# EAGLE library part ADSP-BF533SBSTZ400 (library DSPs)
IC DSP CTLR 16BIT 400MHZ 176LQFP Manufacturer's datasheet <https://www.analog.com/media/en/technical-documentation/data-sheets/ADSP-BF531_BF532_BF533.pdf>
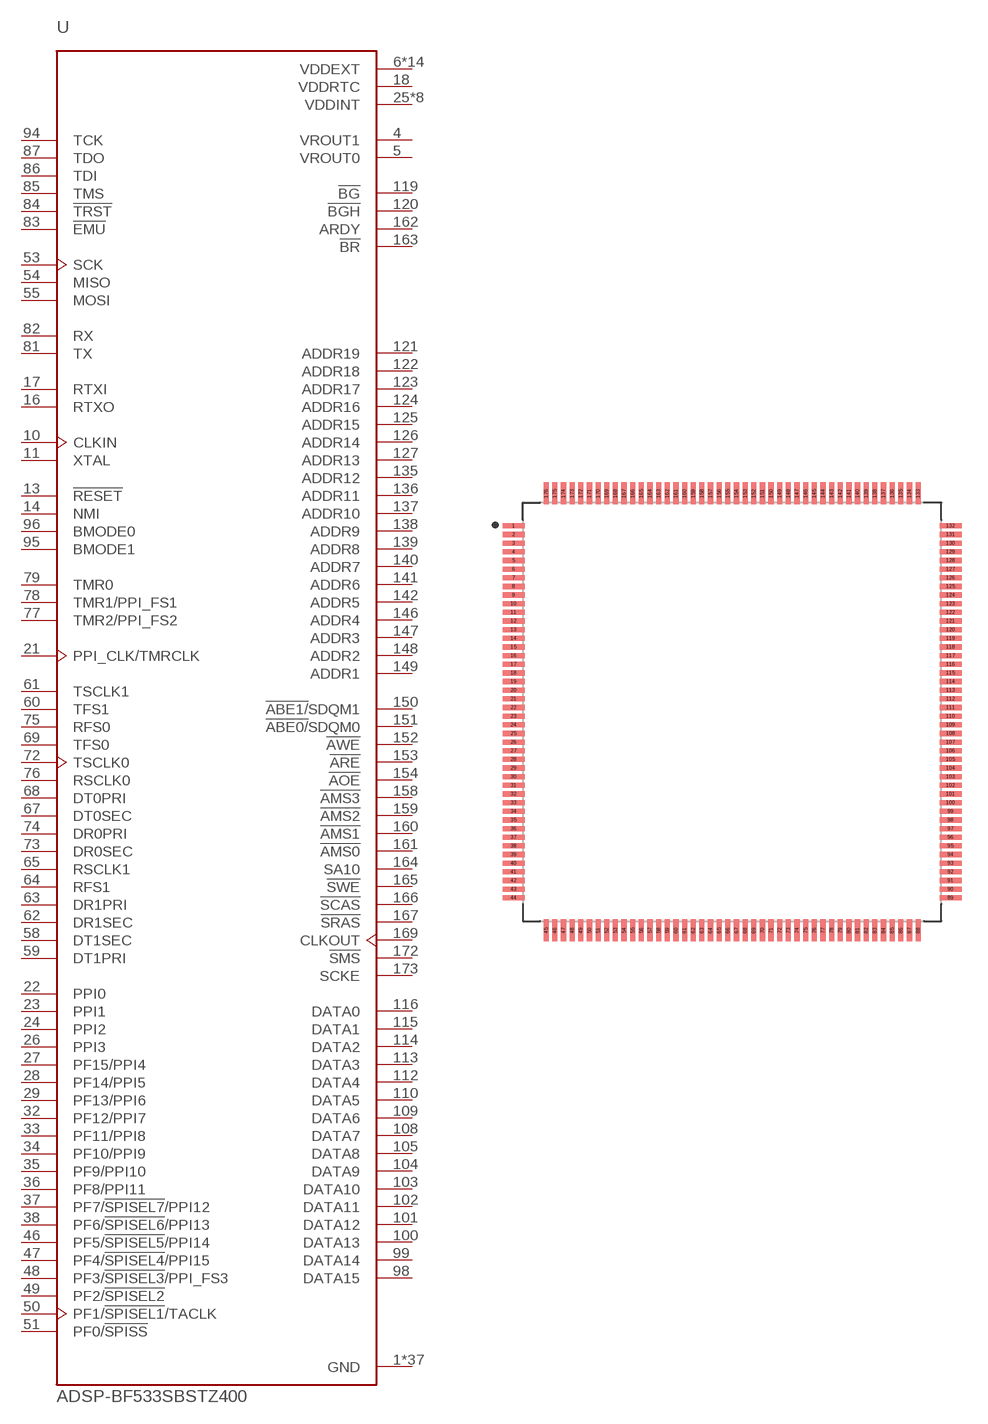
[diagram p4: symbol with the pads of LQFP-176; footprint LQFP-176]

Designator prefix U

## ADSP-BF533SBSTZ400 (CREATED_BY: PCBLayout.com; DIGIKEY_PN: ADSP-BF533SBSTZ400-ND; MANUFACTURER: Analog Devices Inc.; MPN: ADSP-BF533SBSTZ400; PACKAGE: LQFP-176)  [LQFP-176]
1  GND  pwr
2  GND  pwr
3  GND  pwr
4  VROUT1  out
5  VROUT0  out
6  VDDEXT  pwr
7  GND  pwr
8  GND  pwr
9  GND  pwr
10  CLKIN  in
11  XTAL  out
12  VDDEXT  pwr
13  !RESET  in
14  NMI  in
15  GND  pwr
16  RTXO  out
17  RTXI  in
18  VDDRTC  pwr
19  GND  pwr
20  VDDEXT  pwr
21  PPI_CLK/TMRCLK  in
22  PPI0
23  PPI1
24  PPI2
25  VDDINT  pwr
26  PPI3
27  PF15/PPI4
28  PF14/PPI5
29  PF13/PPI6
30  GND  pwr
31  VDDEXT  pwr
32  PF12/PPI7
33  PF11/PPI8
34  PF10/PPI9
35  PF9/PPI10
36  PF8/PPI11
37  PF7/!SPISEL7!/PPI12
38  PF6/!SPISEL6!/PPI13
39  GND  pwr
40  GND  pwr
41  GND  pwr
42  GND  pwr
43  GND  pwr
44  GND  pwr
45  VDDEXT  pwr
46  PF5/!SPISEL5!/PPI14
47  PF4/!SPISEL4!/PPI15
48  PF3/!SPISEL3!/PPI_FS3
49  PF2/!SPISEL2!
50  PF1/!SPISEL1!/TACLK
51  PF0/!SPISS
52  VDDINT  pwr
53  SCK
54  MISO
55  MOSI
56  GND  pwr
57  VDDEXT  pwr
58  DT1SEC  out
59  DT1PRI  out
60  TFS1
61  TSCLK1
62  DR1SEC  in
63  DR1PRI  in
64  RFS1
65  RSCLK1
66  VDDINT  pwr
67  DT0SEC  out
68  DT0PRI  out
69  TFS0
70  GND  pwr
71  VDDEXT  pwr
72  TSCLK0
73  DR0SEC  in
74  DR0PRI  in
75  RFS0
76  RSCLK0
77  TMR2/PPI_FS2
78  TMR1/PPI_FS1
79  TMR0
80  VDDINT  pwr
81  TX  out
82  RX  in
83  !EMU  out
84  !TRST  in
85  TMS  in
86  TDI  in
87  TDO  out
88  GND  pwr
89  GND  pwr
90  GND  pwr
91  GND  pwr
92  GND  pwr
93  VDDEXT  pwr
94  TCK  in
95  BMODE1  in
96  BMODE0  in
97  GND  pwr
98  DATA15
99  DATA14
100  DATA13
101  DATA12
102  DATA11
103  DATA10
104  DATA9
105  DATA8
106  GND  pwr
107  VDDEXT  pwr
108  DATA7
109  DATA6
110  DATA5
111  VDDINT  pwr
112  DATA4
113  DATA3
114  DATA2
115  DATA1
116  DATA0
117  GND  pwr
118  VDDEXT  pwr
119  !BG  out
120  !BGH  out
121  ADDR19  out
122  ADDR18  out
123  ADDR17  out
124  ADDR16  out
125  ADDR15  out
126  ADDR14  out
127  ADDR13  out
128  GND  pwr
129  GND  pwr
130  GND  pwr
131  GND  pwr
132  GND  pwr
133  GND  pwr
134  VDDEXT  pwr
135  ADDR12  out
136  ADDR11  out
137  ADDR10  out
138  ADDR9  out
139  ADDR8  out
140  ADDR7  out
141  ADDR6  out
142  ADDR5  out
143  VDDINT  pwr
144  GND  pwr
145  VDDEXT  pwr
146  ADDR4  out
147  ADDR3  out
148  ADDR2  out
149  ADDR1  out
150  !ABE1/!SDQM1  out
151  !ABE0/!SDQM0  out
152  !AWE  out
153  !ARE  out
154  !AOE  out
155  GND  pwr
156  VDDEXT  pwr
157  VDDINT  pwr
158  !AMS3  out
159  !AMS2  out
160  !AMS1  out
161  !AMS0  out
162  ARDY  in
163  !BR  in
164  SA10  out
165  !SWE  out
166  !SCAS  out
167  !SRAS  out
168  VDDINT  pwr
169  CLKOUT  out
170  GND  pwr
171  VDDEXT  pwr
172  !SMS  out
173  SCKE  out
174  GND  pwr
175  GND  pwr
176  GND  pwr

## Footprint LQFP-176 (pad centres in mm)
smd 1.26 x 0.3: 1 -12.63,10.75; 2 -12.63,10.25; 3 -12.63,9.75; 4 -12.63,9.25; 5 -12.63,8.75; 6 -12.63,8.25; 7 -12.63,7.75; 8 -12.63,7.25; 9 -12.63,6.75; 10 -12.63,6.25; 11 -12.63,5.75; 12 -12.63,5.25; 13 -12.63,4.75; 14 -12.63,4.25; 15 -12.63,3.75; 16 -12.63,3.25; 17 -12.63,2.75; 18 -12.63,2.25; 19 -12.63,1.75; 20 -12.63,1.25; 21 -12.63,0.75; 22 -12.63,0.25; 23 -12.63,-0.25; 24 -12.63,-0.75; 25 -12.63,-1.25; 26 -12.63,-1.75; 27 -12.63,-2.25; 28 -12.63,-2.75; 29 -12.63,-3.25; 30 -12.63,-3.75; 31 -12.63,-4.25; 32 -12.63,-4.75; 33 -12.63,-5.25; 34 -12.63,-5.75; 35 -12.63,-6.25; 36 -12.63,-6.75; 37 -12.63,-7.25; 38 -12.63,-7.75; 39 -12.63,-8.25; 40 -12.63,-8.75; 41 -12.63,-9.25; 42 -12.63,-9.75; 43 -12.63,-10.25; 44 -12.63,-10.75; 89 12.63,-10.75; 90 12.63,-10.25; 91 12.63,-9.75; 92 12.63,-9.25; 93 12.63,-8.75; 94 12.63,-8.25; 95 12.63,-7.75; 96 12.63,-7.25; 97 12.63,-6.75; 98 12.63,-6.25; 99 12.63,-5.75; 100 12.63,-5.25; 101 12.63,-4.75; 102 12.63,-4.25; 103 12.63,-3.75; 104 12.63,-3.25; 105 12.63,-2.75; 106 12.63,-2.25; 107 12.63,-1.75; 108 12.63,-1.25; 109 12.63,-0.75; 110 12.63,-0.25; 111 12.63,0.25; 112 12.63,0.75; 113 12.63,1.25; 114 12.63,1.75; 115 12.63,2.25; 116 12.63,2.75; 117 12.63,3.25; 118 12.63,3.75; 119 12.63,4.25; 120 12.63,4.75; 121 12.63,5.25; 122 12.63,5.75; 123 12.63,6.25; 124 12.63,6.75; 125 12.63,7.25; 126 12.63,7.75; 127 12.63,8.25; 128 12.63,8.75; 129 12.63,9.25; 130 12.63,9.75; 131 12.63,10.25; 132 12.63,10.75
smd 0.3 x 1.26: 45 -10.75,-12.63; 46 -10.25,-12.63; 47 -9.75,-12.63; 48 -9.25,-12.63; 49 -8.75,-12.63; 50 -8.25,-12.63; 51 -7.75,-12.63; 52 -7.25,-12.63; 53 -6.75,-12.63; 54 -6.25,-12.63; 55 -5.75,-12.63; 56 -5.25,-12.63; 57 -4.75,-12.63; 58 -4.25,-12.63; 59 -3.75,-12.63; 60 -3.25,-12.63; 61 -2.75,-12.63; 62 -2.25,-12.63; 63 -1.75,-12.63; 64 -1.25,-12.63; 65 -0.75,-12.63; 66 -0.25,-12.63; 67 0.25,-12.63; 68 0.75,-12.63; 69 1.25,-12.63; 70 1.75,-12.63; 71 2.25,-12.63; 72 2.75,-12.63; 73 3.25,-12.63; 74 3.75,-12.63; 75 4.25,-12.63; 76 4.75,-12.63; 77 5.25,-12.63; 78 5.75,-12.63; 79 6.25,-12.63; 80 6.75,-12.63; 81 7.25,-12.63; 82 7.75,-12.63; 83 8.25,-12.63; 84 8.75,-12.63; 85 9.25,-12.63; 86 9.75,-12.63; 87 10.25,-12.63; 88 10.75,-12.63; 133 10.75,12.63; 134 10.25,12.63; 135 9.75,12.63; 136 9.25,12.63; 137 8.75,12.63; 138 8.25,12.63; 139 7.75,12.63; 140 7.25,12.63; 141 6.75,12.63; 142 6.25,12.63; 143 5.75,12.63; 144 5.25,12.63; 145 4.75,12.63; 146 4.25,12.63; 147 3.75,12.63; 148 3.25,12.63; 149 2.75,12.63; 150 2.25,12.63; 151 1.75,12.63; 152 1.25,12.63; 153 0.75,12.63; 154 0.25,12.63; 155 -0.25,12.63; 156 -0.75,12.63; 157 -1.25,12.63; 158 -1.75,12.63; 159 -2.25,12.63; 160 -2.75,12.63; 161 -3.25,12.63; 162 -3.75,12.63; 163 -4.25,12.63; 164 -4.75,12.63; 165 -5.25,12.63; 166 -5.75,12.63; 167 -6.25,12.63; 168 -6.75,12.63; 169 -7.25,12.63; 170 -7.75,12.63; 171 -8.25,12.63; 172 -8.75,12.63; 173 -9.25,12.63; 174 -9.75,12.63; 175 -10.25,12.63; 176 -10.75,12.63